# EAGLE library part NUCLEO-8L152R8 (library nucleo)
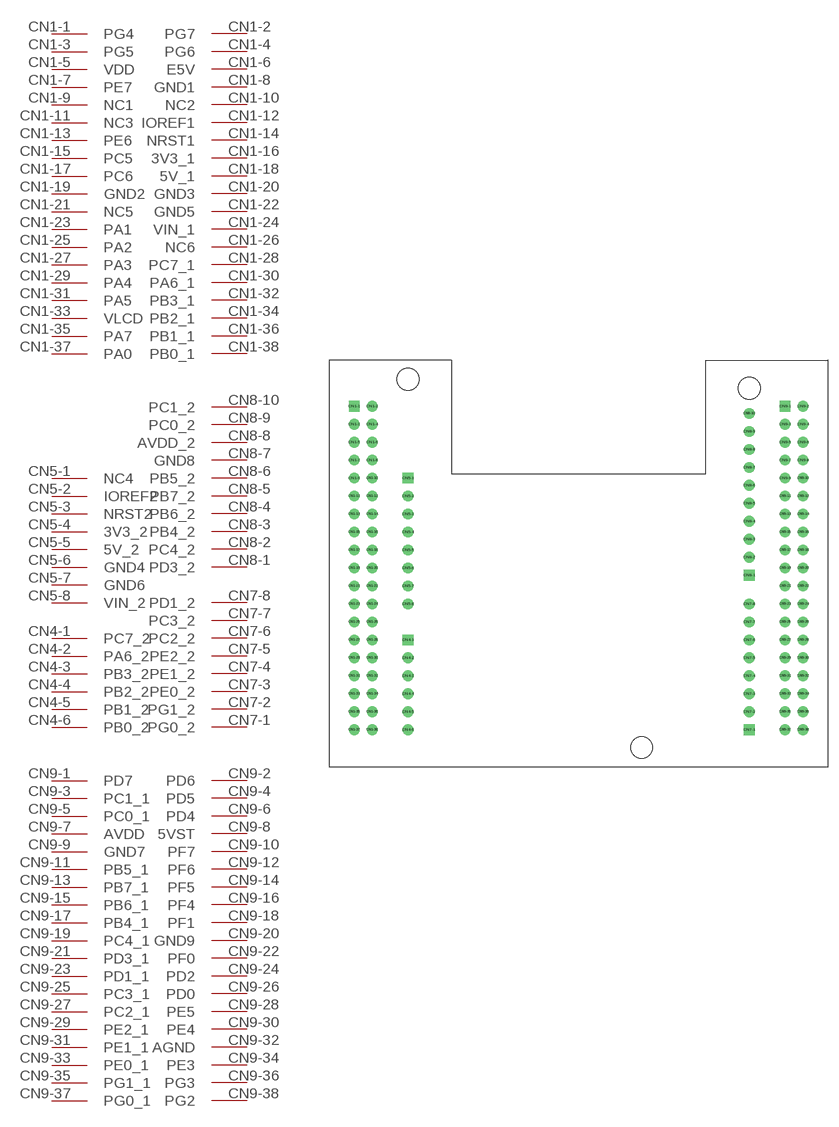
[diagram p0: symbol with the pads of MODULE_NUCLEO-L053R8; footprint MODULE_NUCLEO-L053R8]

Designator prefix -

## NUCLEO-8L152R8  [MODULE_NUCLEO-L053R8]
CN1-1  PG4
CN1-2  PG7
CN1-3  PG5
CN1-4  PG6
CN1-5  VDD
CN1-6  E5V
CN1-7  PE7
CN1-8  GND1
CN1-9  NC1
CN1-10  NC2
CN1-11  NC3
CN1-12  IOREF1
CN1-13  PE6
CN1-14  NRST1
CN1-15  PC5
CN1-16  3V3_1
CN1-17  PC6
CN1-18  5V_1
CN1-19  GND2
CN1-20  GND3
CN1-21  NC5
CN1-22  GND5
CN1-23  PA1
CN1-24  VIN_1
CN1-25  PA2
CN1-26  NC6
CN1-27  PA3
CN1-28  PC7_1
CN1-29  PA4
CN1-30  PA6_1
CN1-31  PA5
CN1-32  PB3_1
CN1-33  VLCD
CN1-34  PB2_1
CN1-35  PA7
CN1-36  PB1_1
CN1-37  PA0
CN1-38  PB0_1
CN4-1  PC7_2
CN4-2  PA6_2
CN4-3  PB3_2
CN4-4  PB2_2
CN4-5  PB1_2
CN4-6  PB0_2
CN5-1  NC4
CN5-2  IOREF2
CN5-3  NRST2
CN5-4  3V3_2
CN5-5  5V_2
CN5-6  GND4
CN5-7  GND6
CN5-8  VIN_2
CN7-1  PG0_2
CN7-2  PG1_2
CN7-3  PE0_2
CN7-4  PE1_2
CN7-5  PE2_2
CN7-6  PC2_2
CN7-7  PC3_2
CN7-8  PD1_2
CN8-1  PD3_2
CN8-2  PC4_2
CN8-3  PB4_2
CN8-4  PB6_2
CN8-5  PB7_2
CN8-6  PB5_2
CN8-7  GND8
CN8-8  AVDD_2
CN8-9  PC0_2
CN8-10  PC1_2
CN9-1  PD7
CN9-2  PD6
CN9-3  PC1_1
CN9-4  PD5
CN9-5  PC0_1
CN9-6  PD4
CN9-7  AVDD
CN9-8  5VST
CN9-9  GND7
CN9-10  PF7
CN9-11  PB5_1
CN9-12  PF6
CN9-13  PB7_1
CN9-14  PF5
CN9-15  PB6_1
CN9-16  PF4
CN9-17  PB4_1
CN9-18  PF1
CN9-19  PC4_1
CN9-20  GND9
CN9-21  PD3_1
CN9-22  PF0
CN9-23  PD1_1
CN9-24  PD2
CN9-25  PC3_1
CN9-26  PD0
CN9-27  PC2_1
CN9-28  PE5
CN9-29  PE2_1
CN9-30  PE4
CN9-31  PE1_1
CN9-32  AGND
CN9-33  PE0_1
CN9-34  PE3
CN9-35  PG1_1
CN9-36  PG3
CN9-37  PG0_1
CN9-38  PG2

## Footprint MODULE_NUCLEO-L053R8 (pad centres in mm)
drill 1 square: CN1-1 -31.75,9.51; CN4-1 -24.13,-23.51; CN5-1 -24.13,-0.65; CN7-1 24.13,-36.21; CN8-1 24.13,-14.37; CN9-1 29.21,9.51
drill 1: CN1-2 -29.21,9.51; CN1-3 -31.75,6.97; CN1-4 -29.21,6.97; CN1-5 -31.75,4.43; CN1-6 -29.21,4.43; CN1-7 -31.75,1.89; CN1-8 -29.21,1.89; CN1-9 -31.75,-0.65; CN1-10 -29.21,-0.65; CN1-11 -31.75,-3.19; CN1-12 -29.21,-3.19; CN1-13 -31.75,-5.73; CN1-14 -29.21,-5.73; CN1-15 -31.75,-8.27; CN1-16 -29.21,-8.27; CN1-17 -31.75,-10.81; CN1-18 -29.21,-10.81; CN1-19 -31.75,-13.35; CN1-20 -29.21,-13.35; CN1-21 -31.75,-15.89; CN1-22 -29.21,-15.89; CN1-23 -31.75,-18.43; CN1-24 -29.21,-18.43; CN1-25 -31.75,-20.97; CN1-26 -29.21,-20.97; CN1-27 -31.75,-23.51; CN1-28 -29.21,-23.51; CN1-29 -31.75,-26.05; CN1-30 -29.21,-26.05; CN1-31 -31.75,-28.59; CN1-32 -29.21,-28.59; CN1-33 -31.75,-31.13; CN1-34 -29.21,-31.13; CN1-35 -31.75,-33.67; CN1-36 -29.21,-33.67; CN1-37 -31.75,-36.21; CN1-38 -29.21,-36.21; CN4-2 -24.13,-26.05; CN4-3 -24.13,-28.59; CN4-4 -24.13,-31.13; CN4-5 -24.13,-33.67; CN4-6 -24.13,-36.21; CN5-2 -24.13,-3.19; CN5-3 -24.13,-5.73; CN5-4 -24.13,-8.27; CN5-5 -24.13,-10.81; CN5-6 -24.13,-13.35; CN5-7 -24.13,-15.89; CN5-8 -24.13,-18.43; CN7-2 24.13,-33.67; CN7-3 24.13,-31.13; CN7-4 24.13,-28.59; CN7-5 24.13,-26.05; CN7-6 24.13,-23.51; CN7-7 24.13,-20.97; CN7-8 24.13,-18.43; CN8-2 24.13,-11.83; CN8-3 24.13,-9.29; CN8-4 24.13,-6.75; CN8-5 24.13,-4.21; CN8-6 24.13,-1.67; CN8-7 24.13,0.87; CN8-8 24.13,3.41; CN8-9 24.13,5.95; CN8-10 24.13,8.49; CN9-2 31.75,9.51; CN9-3 29.21,6.97; CN9-4 31.75,6.97; CN9-5 29.21,4.43; CN9-6 31.75,4.43; CN9-7 29.21,1.89; CN9-8 31.75,1.89; CN9-9 29.21,-0.65; CN9-10 31.75,-0.65; CN9-11 29.21,-3.19; CN9-12 31.75,-3.19; CN9-13 29.21,-5.73; CN9-14 31.75,-5.73; CN9-15 29.21,-8.27; CN9-16 31.75,-8.27; CN9-17 29.21,-10.81; CN9-18 31.75,-10.81; CN9-19 29.21,-13.35; CN9-20 31.75,-13.35; CN9-21 29.21,-15.89; CN9-22 31.75,-15.89; CN9-23 29.21,-18.43; CN9-24 31.75,-18.43; CN9-25 29.21,-20.97; CN9-26 31.75,-20.97; CN9-27 29.21,-23.51; CN9-28 31.75,-23.51; CN9-29 29.21,-26.05; CN9-30 31.75,-26.05; CN9-31 29.21,-28.59; CN9-32 31.75,-28.59; CN9-33 29.21,-31.13; CN9-34 31.75,-31.13; CN9-35 29.21,-33.67; CN9-36 31.75,-33.67; CN9-37 29.21,-36.21; CN9-38 31.75,-36.21
hole 3.05 at 24.13,12.05
hole 3.05 at -24.13,13.32
hole 3.05 at 8.89,-38.75